# Altium footprint library my_lib.PcbLib: 38 footprints (part 2 of 3)
Each footprint in its own frame and in the unit in brackets; x right, y up, seen from the top. Pads: shape width x height; smd on the part's side, far side on the other; paste and mask are expansions set on the pad; w line width, h text height; cw(c..) or ccw(c..) is an arc to the next point about the centre after c.
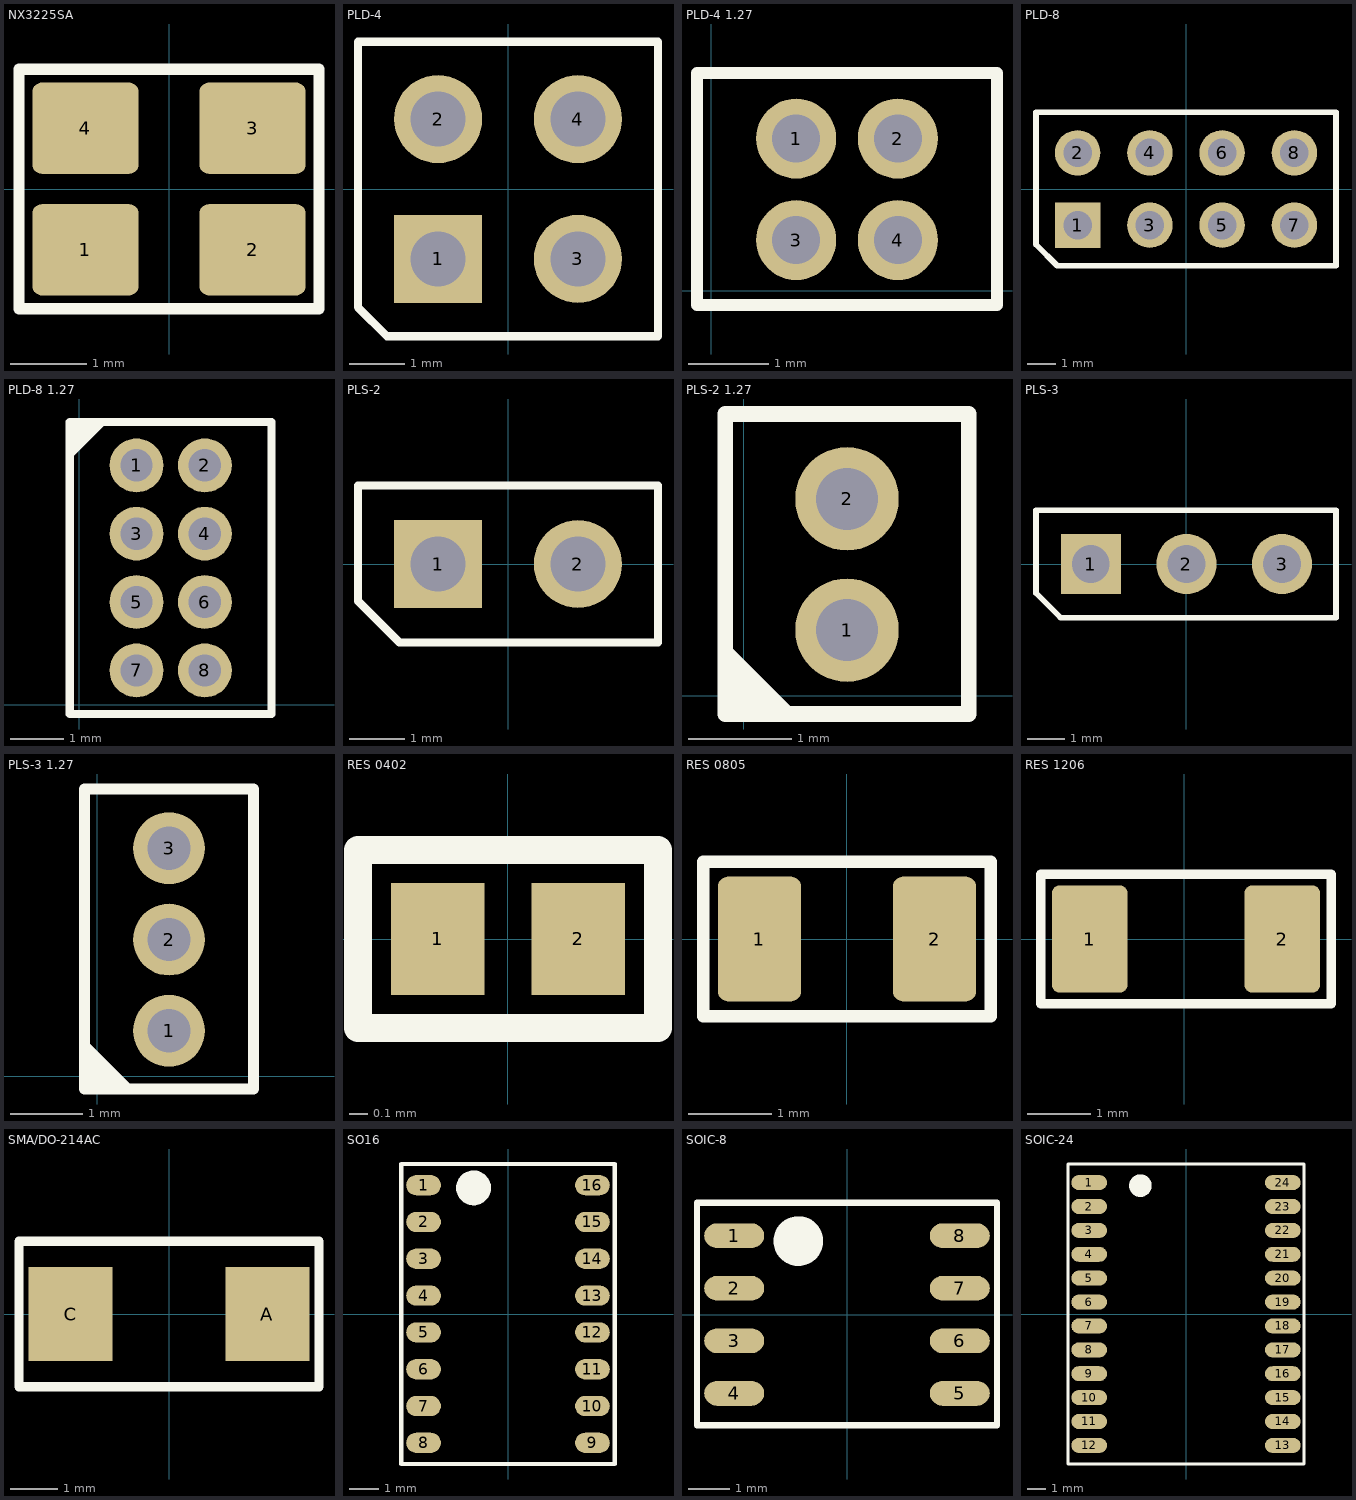
[diagram p1: the footprints below, top view; thin cyan lines are the x and y axes]

## NX3225SA [mm]
pads (4):
  rrect20% 1.4x1.2 smd: 1(-1.1,-0.8) 2(1.1,-0.8) 3(1.1,0.8) 4(-1.1,0.8)
Top Overlay:
  lines w0.15: -1.975,-1.575 -1.975,1.575 1.425,1.575 1.975,1.575 1.975,-1.575 1.95,-1.575 1.65,-1.575 -0.975,-1.575 -1.25,-1.575 -1.975,-1.575
3D body "NX3225SA.stp": height 0.55, standoff 0, extent -1.605,-1.255 1.605,1.255

## PLD-4 [mm]
pads (4):
  rect 1.6x1.6 hole 1: 1(-1.27,-1.27)
  round 1.6 hole 1: 2(-1.27,1.27) 3(1.27,-1.27) 4(1.27,1.27)
Top Overlay:
  lines w0.15: -2.725,-2.15 -2.725,2.675 2.725,2.675 2.725,-2.675 -2.2,-2.675 -2.725,-2.15
3D body "PLD-4.stp": height 8.5, standoff -3, extent -2.54,-2.5 2.54,2.5

## PLD-4 1.27 [mm]
pads (4):
  round 1 hole 0.6: 1(1.065,1.905) 2(2.335,1.905) 3(1.065,0.635) 4(2.335,0.635)
Top Overlay:
  lines w0.15: -0.175,-0.175 -0.075,-0.175 0.25,-0.175 3.575,-0.175 3.575,2.725 -0.175,2.725 -0.175,-0.175
3D body: height 7.4, standoff -2.6, extent 0.815,0.385 1.315,0.885
3D body: height 7.4, standoff -2.6, extent 2.085,0.385 2.585,0.885
3D body: height 7.4, standoff -2.6, extent 2.085,1.655 2.585,2.155
3D body: height 7.4, standoff -2.6, extent 0.815,1.655 1.315,2.155
3D body: height 2, standoff 0, extent 0,0 3.4,2.54

## PLD-8 [mm]
pads (8):
  rect 1.6x1.6 hole 1: 1(-3.81,-1.27)
  round 1.6 hole 1: 2(-3.81,1.27) 3(-1.27,-1.27) 4(-1.27,1.27) 5(1.27,-1.27) 6(1.27,1.27) 7(3.81,-1.27) 8(3.81,1.27)
Top Overlay:
  lines w0.2: -5.275,-1.95 -5.275,2.7 5.275,2.7 5.275,-2.7 -4.525,-2.7 -5.275,-1.95
3D body "PLD-8.stp": height 8.5, standoff -3, extent -5.08,-2.5 5.08,2.5

## PLD-8 1.27 [mm]
pads (8):
  round 1 hole 0.6: 1(1.065,4.445) 2(2.335,4.445) 3(1.065,3.175) 4(2.335,3.175) 5(1.065,1.905) 6(2.335,1.905) 7(1.065,0.635) 8(2.335,0.635)
Top Overlay:
  region: 0.05,5.1 0.05,4.925 0.125,4.925 0.125,5.1
  region: -0.175,5.175 -0.175,4.825 0.05,4.825 0.05,5.175
  region: -0.175,5.25 -0.175,5.05 0.325,5.05 0.325,5.25
  lines w0.15: -0.175,4.7 -0.175,5.075 -0.175,5.25 ; -0.175,5.25 0.425,5.25 -0.175,4.65 -0.175,5.25 ; -0.175,5.25 -0.175,5.25 ; -0.175,5.25 -0.175,-0.175 0.45,-0.175 0.825,-0.175 3.575,-0.175 3.575,0.4 3.575,5.25 -0.175,5.25
3D body: height 7.4, standoff -2.6, extent 0.815,4.195 1.315,4.695
3D body: height 7.4, standoff -2.6, extent 2.085,4.195 2.585,4.695
3D body: height 7.4, standoff -2.6, extent 0.815,2.925 1.315,3.425
3D body: height 7.4, standoff -2.6, extent 2.085,2.925 2.585,3.425
3D body: height 7.4, standoff -2.6, extent 0.815,1.655 1.315,2.155
3D body: height 7.4, standoff -2.6, extent 2.085,1.655 2.585,2.155
3D body: height 7.4, standoff -2.6, extent 0.815,0.385 1.315,0.885
3D body: height 7.4, standoff -2.6, extent 2.085,0.385 2.585,0.885
3D body: height 2, standoff 0, extent 0,0 3.4,5.08

## PLS-2 [mm]
pads (2):
  rect 1.6x1.6 hole 1: 1(-1.27,0)
  round 1.6 hole 1: 2(1.27,0)
Top Overlay:
  lines w0.15: -2.725,-0.675 -1.975,-1.425 2.725,-1.425 2.725,1.425 -2.725,1.425 -2.725,-0.675
3D body "PLS-2.stp": height 8.5, standoff -3, extent -2.54,-1.25 2.54,1.25

## PLS-2 1.27 [mm]
pads (2):
  round 1 hole 0.6: 1(1,0.635) 2(1,1.905)
Top Overlay:
  rectangle: -0.175,-0.175 0.025,0.325
  rectangle: -0.1,-0.175 0.25,0.05
  rectangle: -0.025,0.05 0.15,0.125
  lines w0.15: -0.175,-0.175 -0.175,2.45 -0.175,2.725 1.425,2.725 2.175,2.725 2.175,0.3 2.175,-0.175 0.375,-0.175 0,-0.175 -0.175,-0.175 ; -0.175,-0.175 0.425,-0.175 -0.175,0.425 -0.175,-0.175 ; -0.175,-0.175 -0.175,-0.175
3D body: height 6.8, standoff -2.5, extent 0.8,1.705 1.2,2.105
3D body: height 6.8, standoff -2.5, extent 0.8,0.435 1.2,0.835
3D body: height 1.5, standoff 0, extent 0,0 2,2.54

## PLS-3 [mm]
pads (3):
  rect 1.6x1.6 hole 1: 1(-2.54,0)
  round 1.6 hole 1: 2(0,0) 3(2.54,0)
Top Overlay:
  lines w0.15: -4,-0.775 -4,1.425 3.975,1.425 3.975,-1.425 -3.35,-1.425 -4,-0.775
3D body "PLS-3.stp": height 8.5, standoff -3, extent -3.81,-1.25 3.81,1.25

## PLS-3 1.27 [mm]
pads (3):
  round 1 hole 0.6: 1(1,0.635) 2(1,1.905) 3(1,3.175)
Top Overlay:
  rectangle: -0.175,-0.175 0.025,0.325
  rectangle: -0.1,-0.175 0.25,0.05
  rectangle: -0.025,0.05 0.15,0.125
  lines w0.15: -0.175,-0.175 0.425,-0.175 ; -0.175,-0.175 -0.175,-0.175 ; -0.175,-0.175 -0.175,0.425 ; -0.175,0.425 -0.175,4 2.175,4 2.175,0.375 2.175,-0.175 0.425,-0.175 ; -0.175,0.425 0.425,-0.175
3D body: height 6.8, standoff -2.5, extent 0.8,2.975 1.2,3.375
3D body: height 1.5, standoff 0, extent 0,0 2,3.81
3D body: height 6.8, standoff -2.5, extent 0.8,0.435 1.2,0.835
3D body: height 6.8, standoff -2.5, extent 0.8,1.705 1.2,2.105

## RES 0402 [mm]
height 0.35
pads (2):
  rect 0.5x0.6 smd: 1(-0.375,0) 2(0.375,0)
Top Overlay:
  lines w0.15: -0.8,-0.475 0.8,-0.475 0.8,0.475 -0.8,0.475 -0.8,-0.475
3D body: height 0.35, standoff 0, extent -0.5,-0.25 -0.3,0.25
3D body: height 0.35, standoff 0, extent 0.3,-0.25 0.5,0.25
3D body: height 0.35, standoff 0, extent -0.3,-0.25 0.3,0.25

## RES 0805 [mm]
pads (2):
  rrect25% 1x1.5 smd: 1(-1.05,0) 2(1.05,0)
Top Overlay:
  lines w0.15: -1.725,-0.925 -1.725,0.925 1.725,0.925 1.725,-0.925 -1.725,-0.925
3D body: height 0.5, standoff 0, extent 0.65,-0.7 1.05,0.7
3D body: height 0.5, standoff 0, extent -1.05,-0.7 -0.65,0.7
3D body: height 0.5, standoff 0, extent -0.65,-0.7 0.65,0.7

## RES 1206 [mm]
pads (2):
  rrect20% 1.2x1.7 smd: 1(-1.5,0) 2(1.55,0)
Top Overlay:
  lines w0.15: -2.275,-1.025 -2.275,1.025 2.325,1.025 2.325,-1.025 -2.275,-1.025
3D body: height 0.55, standoff 0, extent 1.05,-0.8 1.55,0.8
3D body: height 0.55, standoff 0, extent -1.05,-0.8 1.05,0.8
3D body: height 0.55, standoff 0, extent -1.55,-0.8 -1.05,0.8

## SMA/DO-214AC [mm]
pads (2):
  rect 1.8x2 smd: A(2.1,0) C(-2.1,0)
Top Overlay:
  lines w0.2: -3.2,-1.55 3.2,-1.55 3.2,1.55 -3.2,1.55 -3.2,-1.55
3D body "SMA.stp": height 2.2, standoff 0, extent -2.5,-1.35 2.5,1.35

## SO16 [mm]
pads (16):
  oval 1.2x0.7 smd: 1(-2.925,4.445) 2(-2.925,3.175) 3(-2.925,1.905) 4(-2.925,0.635) 5(-2.925,-0.635) 6(-2.925,-1.905) 7(-2.925,-3.175) 8(-2.925,-4.445) 9(2.9,-4.445) 10(2.9,-3.175) 11(2.9,-1.905) 12(2.9,-0.635) 13(2.9,0.635) 14(2.9,1.905) 15(2.9,3.175) 16(2.9,4.445)
Top Overlay:
  circle w0.6: c-1.2,4.35 r0.3
  lines w0.15: -3.7,-5.175 3.675,-5.175 3.675,5.175 -3.7,5.175 -3.7,3.75 -3.7,-5.175
3D body "SW3DPS-SO-16-DEFAULT.STEP": height 1.45, standoff 0, extent -2.98,-4.991 2.925,4.991

## SOIC-8 [mm]
height 1.75
pads (8):
  oval 1.45x0.6 smd: 1(-2.725,1.905) 2(-2.725,0.635) 3(-2.725,-0.635) 4(-2.725,-1.905) 5(2.725,-1.905) 6(2.725,-0.635) 7(2.725,0.635) 8(2.725,1.905)
Top Overlay:
  circle w0.6: c-1.175,1.775 r0.3
  lines w0.15: -3.625,-2.675 -2.5,-2.675 3.625,-2.675 3.625,-1.7 3.625,2.7 2.775,2.7 -3.625,2.7 -3.625,1.925 -3.625,-2.675
3D body "SOIC8.step": height 1.75, standoff 0, extent -2.997,-2.5 2.997,2.5

## SOIC-24 [mm]
pads (24):
  oval 1.9x0.8 smd: 1(-5.15,6.985) 2(-5.15,5.715) 3(-5.15,4.445) 4(-5.15,3.175) 5(-5.15,1.905) 6(-5.15,0.635) 7(-5.15,-0.635) 8(-5.15,-1.905) 9(-5.15,-3.175) 10(-5.15,-4.445) 11(-5.15,-5.715) 12(-5.15,-6.985) 13(5.15,-6.985) 14(5.15,-5.715) 15(5.15,-4.445) 16(5.15,-3.175) 17(5.15,-1.905) 18(5.15,-0.635) 19(5.15,0.635) 20(5.15,1.905) 21(5.15,3.175) 22(5.15,4.445) 23(5.15,5.715) 24(5.15,6.985)
Top Overlay:
  circle w0.6: c-2.425,6.825 r0.3
  lines w0.15: -6.275,-7.975 -6.275,6.65 -6.275,7.625 -6.275,7.975 6.275,7.975 6.275,-7.975 -2.7,-7.975 -6.275,-7.975
3D body "SOIC-24.step": height 2.65, standoff 0, extent -5.162,-7.8 5.162,7.8